# EAGLE library part HDR13_2 (library C3-Connector)
HEADER/SOCKET 13x2
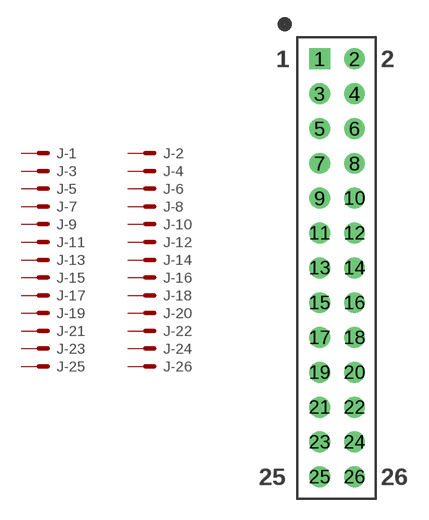
[diagram p16: symbol with the pads of SAMTEC_SSW-113-21-L-D; footprint SAMTEC_SSW-113-21-L-D]

Designator prefix J; gates -1=M -2=M -3=M -4=M -5=M -6=M -7=M -8=M -9=M -10=M -11=M -12=M -13=M -14=M -15=M -16=M -17=M -18=M -19=M -20=M -21=M -22=M -23=M -24=M -25=M -26=M

## HDR13_2SSW-113-21-L-D  [SAMTEC_SSW-113-21-L-D]
1  -1:S  pas
2  -2:S  pas
3  -3:S  pas
4  -4:S  pas
5  -5:S  pas
6  -6:S  pas
7  -7:S  pas
8  -8:S  pas
9  -9:S  pas
10  -10:S  pas
11  -11:S  pas
12  -12:S  pas
13  -13:S  pas
14  -14:S  pas
15  -15:S  pas
16  -16:S  pas
17  -17:S  pas
18  -18:S  pas
19  -19:S  pas
20  -20:S  pas
21  -21:S  pas
22  -22:S  pas
23  -23:S  pas
24  -24:S  pas
25  -25:S  pas
26  -26:S  pas

## Footprint SAMTEC_SSW-113-21-L-D (pad centres in mm)
SAMTEC 13x2 THROUGH-HOLE .025" SQ POST SOCKET 13 Pins, 2 Rows, Solder Tail, Low Force, 10µ" Gold on Contact SSW Series Catalog Page (EN) <http://www.samtec.com/documents/webfiles/pdf/SSW_TH.PDF> SSW Assembly Drawing <http://www.samtec.com/documents/webfiles/cpdf/SSW-1XX-XX-XXX-X-XX-XXX-XX-MKT.pdf>
drill 1.016 square: 1 -1.27,15.24
drill 1.016: 2 1.27,15.24; 3 -1.27,12.7; 4 1.27,12.7; 5 -1.27,10.16; 6 1.27,10.16; 7 -1.27,7.62; 8 1.27,7.62; 9 -1.27,5.08; 10 1.27,5.08; 11 -1.27,2.54; 12 1.27,2.54; 13 -1.27,0; 14 1.27,0; 15 -1.27,-2.54; 16 1.27,-2.54; 17 -1.27,-5.08; 18 1.27,-5.08; 19 -1.27,-7.62; 20 1.27,-7.62; 21 -1.27,-10.16; 22 1.27,-10.16; 23 -1.27,-12.7; 24 1.27,-12.7; 25 -1.27,-15.24; 26 1.27,-15.24